# EAGLE library part R_SHUGOU (library user_rcl)
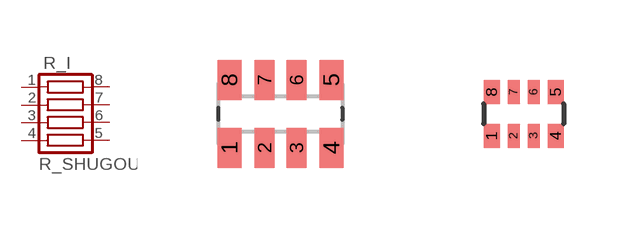
[diagram p0: symbol with the pads of 0603X4RESISTOR; footprints 0603X4RESISTOR, 1005X4RESISTOR]

Designator prefix R_I

## R_SHUGOU  [0603X4RESISTOR]
1  1  pas
2  2  pas
3  3  pas
4  4  pas
5  5  pas
6  6  pas
7  7  pas
8  8  pas

## R_SHUGOU2  [1005X4RESISTOR]
Pads as for 0603X4RESISTOR

## Footprint 0603X4RESISTOR (pad centres in mm)
工房に落ちていた集合抵抗 トレランス、精級などふめい。金属皮膜だし基本性能いいと思う
smd 0.6 x 1: 1 -1.275,-0.85; 4 1.275,-0.85; 5 1.275,0.85; 8 -1.275,0.85
smd 0.5 x 1: 2 -0.4,-0.85; 3 0.4,-0.85; 6 0.4,0.85; 7 -0.4,0.85

## Footprint 1005X4RESISTOR (pad centres in mm)
秋月電子 10k 通販コード[P-04664]
smd 0.4 x 0.6: 1 0.2,-0.8; 4 1.8,-0.8; 5 1.8,0.3; 8 0.2,0.3
smd 0.3 x 0.6: 2 0.75,-0.8; 3 1.25,-0.8; 6 1.25,0.3; 7 0.75,0.3